# Altium schematic symbol library LM2842XMK-ADJL.Schlib: 1 symbol
Pins are listed as number, name and electrical type; pins without a type are passive.

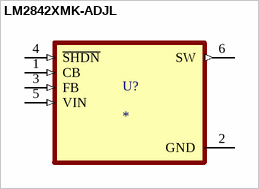
[diagram p0: symbol LM2842XMK-ADJL]

## LM2842XMK-ADJL
designator U?
SIMPLE SWITCHERÂ® 4.5V to 42V, 0.6A Step-Down DC/DC Switching Regulator in Thin SOT-23
pins: 1 CB (in), 2 GND (power), 3 FB (in), 4 ~{SHDN} (in), 5 VIN (in), 6 SW (out)